# EAGLE library part ATTINY3224 (library dpx-Microcontroller)
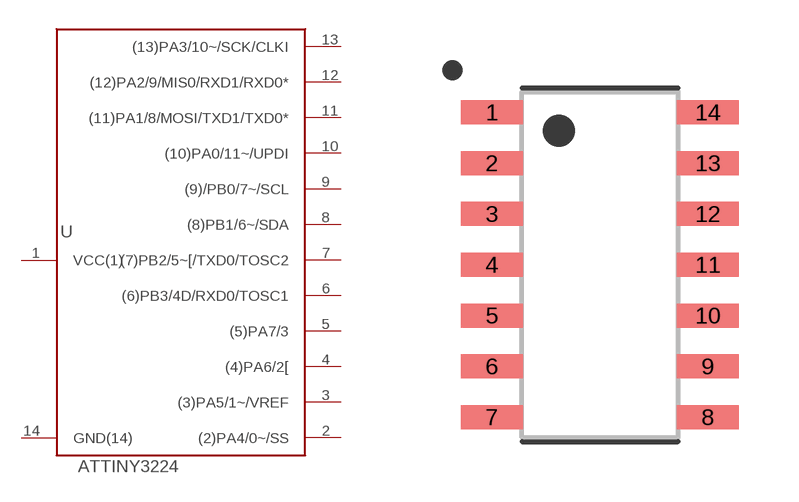
[diagram p9: symbol with the pads of SOIC127P600X144-14_MICRO; footprint SOIC127P600X144-14_MICRO]

Designator prefix -

## ATTINY3224  [SOIC127P600X144-14_MICRO]
1  VCC(1)
2  (2)PA4/0~/SS
3  (3)PA5/1~/VREF
4  (4)PA6/2[
5  (5)PA7/3
6  (6)PB3/4D/RXD0/TOSC1
7  (7)PB2/5~[/TXD0/TOSC2
8  (8)PB1/6~/SDA
9  (9)/PB0/7~/SCL
10  (10)PA0/11~/UPDI
11  (11)PA1/8/MOSI/TXD1/TXD0*
12  (12)PA2/9/MIS0/RXD1/RXD0*
13  (13)PA3/10~/SCK/CLKI
14  GND(14)

## Footprint SOIC127P600X144-14_MICRO (pad centres in mm)
14-SOIC, 1.27 mm pitch, 6.00 mm span, 8.65 X 3.90 X 1.44 mm body 14-pin SOIC package with 1.27 mm pitch, 6.00 mm span with body size 8.65 X 3.90 X 1.44 mm
smd 1.55 x 0.6: 1 -2.7,3.81; 2 -2.7,2.54; 3 -2.7,1.27; 4 -2.7,0; 5 -2.7,-1.27; 6 -2.7,-2.54; 7 -2.7,-3.81; 8 2.7,-3.81; 9 2.7,-2.54; 10 2.7,-1.27; 11 2.7,0; 12 2.7,1.27; 13 2.7,2.54; 14 2.7,3.81